# Altium footprint library Sampler_DIOT.PcbLib: 109 footprints (part 6 of 7)
Each footprint in its own frame and in the unit in brackets; x right, y up, seen from the top. Pads: shape width x height; smd on the part's side, far side on the other; paste and mask are expansions set on the pad; w line width, h text height; cw(c..) or ccw(c..) is an arc to the next point about the centre after c.
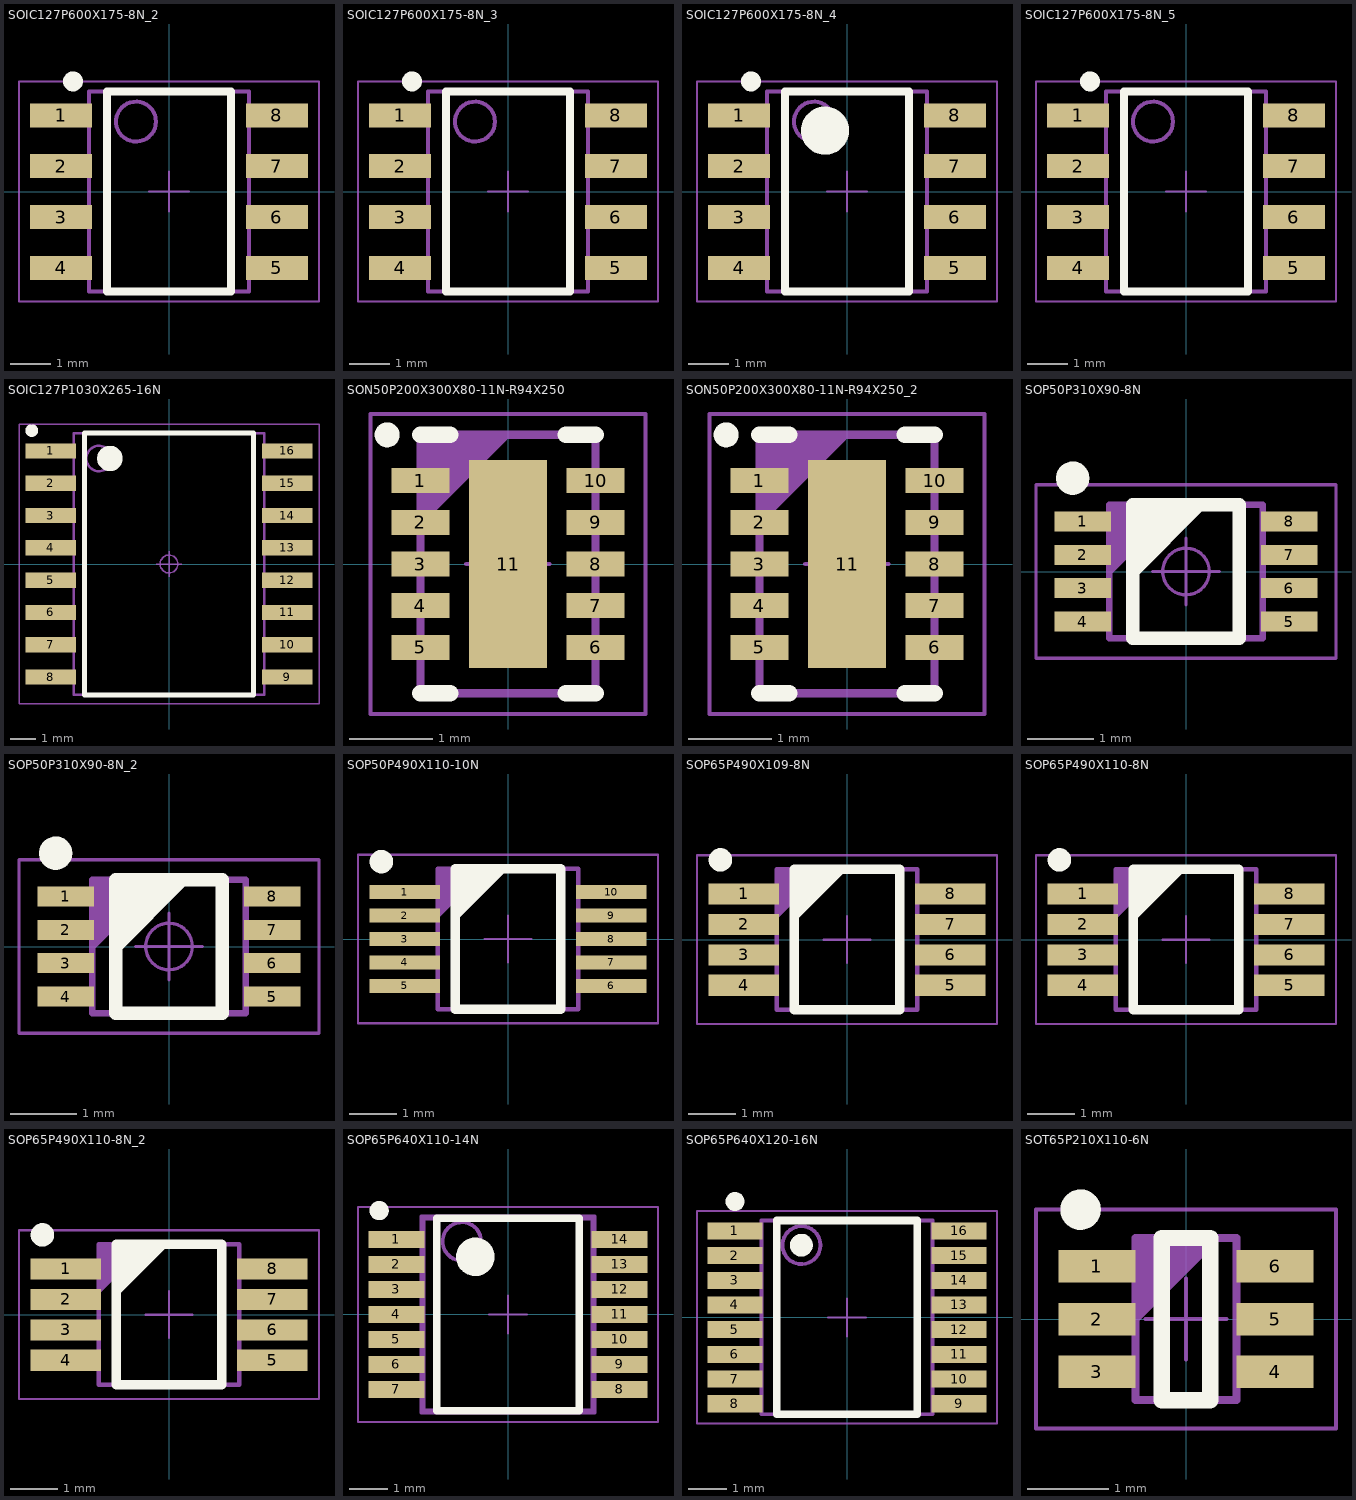
[diagram p5: the footprints below, top view; thin cyan lines are the x and y axes]

## SOIC127P600X175-8N_2 [mm]
pads (8):
  rect 1.55x0.6 smd: 1(-2.7,1.905) 2(-2.7,0.635) 3(-2.7,-0.635) 4(-2.7,-1.905) 5(2.7,-1.905) 6(2.7,-0.635) 7(2.7,0.635) 8(2.7,1.905)
Top Overlay:
  circle w0.25: c-2.4,2.755 r0.125
  lines w0.2: -1.55,-2.5 -1.55,2.5 1.55,2.5 1.55,-2.5 -1.55,-2.5
Top Assembly:
  circle w0.1: c-0.825,1.75 r0.5
  lines w0.1: -2,-2.5 2,-2.5 2,2.5 -2,2.5 -2,-2.5
Top Courtyard:
  lines w0.05: -0.5,0 0.5,0 ; 0,-0.5 0,0.5 ; -3.75,-2.75 3.75,-2.75 3.75,2.75 -3.75,2.75 -3.75,-2.75
3D body "SOIC127P600X175-8N.stp": height 1.75, standoff 0, extent -3.1,-2.5 3.1,2.5

## SOIC127P600X175-8N_3 [mm]
pads (8):
  rect 1.55x0.6 smd: 1(-2.7,1.905) 2(-2.7,0.635) 3(-2.7,-0.635) 4(-2.7,-1.905) 5(2.7,-1.905) 6(2.7,-0.635) 7(2.7,0.635) 8(2.7,1.905)
Top Overlay:
  circle w0.25: c-2.4,2.755 r0.125
  lines w0.2: -1.55,-2.5 1.55,-2.5 1.55,2.5 -1.55,2.5 -1.55,-2.5
Top Assembly:
  circle w0.1: c-0.825,1.75 r0.5
  lines w0.1: -2,-2.5 -2,2.5 2,2.5 2,-2.5 -2,-2.5
Top Courtyard:
  lines w0.05: -0.5,0 0.5,0 ; 0,-0.5 0,0.5 ; -3.75,-2.75 -3.75,2.75 3.75,2.75 3.75,-2.75 -3.75,-2.75
3D body "SOIC127P600X175-8N.stp": height 1.75, standoff 0, extent -3.1,-2.5 3.1,2.5

## SOIC127P600X175-8N_4 [mm]
pads (8):
  rect 1.55x0.6 smd: 1(-2.7,1.905) 2(-2.7,0.635) 3(-2.7,-0.635) 4(-2.7,-1.905) 5(2.7,-1.905) 6(2.7,-0.635) 7(2.7,0.635) 8(2.7,1.905)
Top Overlay:
  circle w0.25: c-2.4,2.755 r0.125
  circle w0.6: c-0.55,1.525 r0.3
  lines w0.2: -1.55,-2.5 1.55,-2.5 1.55,2.5 -1.55,2.5 -1.55,-2.5
Top Assembly:
  circle w0.1: c-0.825,1.75 r0.5
  lines w0.1: -2,-2.5 2,-2.5 2,2.5 -2,2.5 -2,-2.5
Top Courtyard:
  lines w0.05: -0.5,0 0.5,0 ; 0,-0.5 0,0.5 ; -3.75,-2.75 3.75,-2.75 3.75,2.75 -3.75,2.75 -3.75,-2.75
3D body "SOIC127P600X175-8N.stp": height 1.75, standoff 0, extent -3.1,-2.5 3.1,2.5

## SOIC127P600X175-8N_5 [mm]
pads (8):
  rect 1.55x0.6 smd: 1(-2.7,1.905) 2(-2.7,0.635) 3(-2.7,-0.635) 4(-2.7,-1.905) 5(2.7,-1.905) 6(2.7,-0.635) 7(2.7,0.635) 8(2.7,1.905)
Top Overlay:
  circle w0.25: c-2.4,2.755 r0.125
  lines w0.2: -1.55,-2.5 1.55,-2.5 1.55,2.5 -1.55,2.5 -1.55,-2.5
Top Assembly:
  circle w0.1: c-0.825,1.75 r0.5
  lines w0.1: -2,-2.5 -2,2.5 2,2.5 2,-2.5 -2,-2.5
Top Courtyard:
  lines w0.05: -0.5,0 0.5,0 ; 0,-0.5 0,0.5 ; -3.75,-2.75 -3.75,2.75 3.75,2.75 3.75,-2.75 -3.75,-2.75
3D body "SOIC127P600X175-8N.stp": height 1.75, standoff 0, extent -3.1,-2.5 3.1,2.5

## SOIC127P1030X265-16N [mm]
pads (16):
  rect 2x0.6 smd: 1(-4.65,4.445) 2(-4.65,3.175) 3(-4.65,1.905) 4(-4.65,0.635) 5(-4.65,-0.635) 6(-4.65,-1.905) 7(-4.65,-3.175) 8(-4.65,-4.445) 9(4.65,-4.445) 10(4.65,-3.175) 11(4.65,-1.905) 12(4.65,-0.635) 13(4.65,0.635) 14(4.65,1.905) 15(4.65,3.175) 16(4.65,4.445)
Top Overlay:
  circle w0.5: c-2.325,4.15 r0.25
  lines w0.2: -3.325,-5.15 -3.325,5.15 3.325,5.15 3.325,-5.15 -3.325,-5.15
  lines w0.25: -5.455,5.362 ccw(c-5.4,5.25) -5.4,5.125 ccw(c-5.4,5.25) -5.345,5.362
Top Assembly:
  circle w0.1: c-2.75,4.15 r0.5
  lines w0.1: -3.75,-5.15 -3.75,5.15 3.75,5.15 3.75,-5.15 -3.75,-5.15
Top Courtyard:
  circle w0.05: c0,0 r0.35
  lines w0.05: -0.5,0 0.5,0 ; 0,-0.5 0,0.5 ; -5.9,-5.5 -5.9,5.5 5.9,5.5 5.9,-5.5 -5.9,-5.5
3D body "SOIC127P1030X265-16N.stp": height 1.68, standoff 0, extent -5.18,-5.25 5.18,5.25

## SON50P200X300X80-11N-R94X250 [mm]
pads (11):
  rect 0.7x0.3 smd: 1(-1.05,1) 2(-1.05,0.5) 3(-1.05,0) 4(-1.05,-0.5) 5(-1.05,-1) 6(1.05,-1) 7(1.05,-0.5) 8(1.05,0) 9(1.05,0.5) 10(1.05,1)
  rect 0.94x2.5 smd: 11(0,0)
Top Overlay:
  circle w0.2: c-1.45,1.55 r0.05
  lines w0.2: -1.05,-1.55 -0.695,-1.55 ; -1.05,1.55 -0.695,1.55 ; 0.695,-1.55 1.05,-1.55 ; 0.695,1.55 1.05,1.55
Top Paste:
  rectangle: -0.45,-1.25 0.45,1.25
Top Assembly:
  lines w0.1: -1.05,0.525 -0.05,1.525 ; -1.05,0.625 -0.15,1.525 ; -1.05,0.725 -0.25,1.525 ; -1.05,0.825 -0.35,1.525 ; -1.05,0.925 -0.45,1.525 ; -1.05,1.025 -0.55,1.525 ; -1.05,1.125 -0.65,1.525 ; -1.05,1.225 -0.75,1.525 ; -1.05,1.325 -0.85,1.525 ; -1.05,1.425 -0.95,1.525 ; -1.05,-1.55 1.05,-1.55 1.05,1.55 -1.05,1.55 -1.05,-1.55
Top Courtyard:
  lines w0.05: -0.5,0 0.5,0 ; 0,-0.5 0,0.5 ; -1.65,-1.8 1.65,-1.8 1.65,1.8 -1.65,1.8 -1.65,-1.8
3D body "SON50P200X300X80-11N-R94X250.stp": height 0.8, standoff 0, extent -1.05,-1.55 1.05,1.55

## SON50P200X300X80-11N-R94X250_2 [mm]
pads (11):
  rect 0.7x0.3 smd: 1(-1.05,1) 2(-1.05,0.5) 3(-1.05,0) 4(-1.05,-0.5) 5(-1.05,-1) 6(1.05,-1) 7(1.05,-0.5) 8(1.05,0) 9(1.05,0.5) 10(1.05,1)
  rect 0.94x2.5 smd: 11(0,0)
Top Overlay:
  circle w0.2: c-1.45,1.55 r0.05
  lines w0.2: -1.05,-1.55 -0.695,-1.55 ; -1.05,1.55 -0.695,1.55 ; 0.695,-1.55 1.05,-1.55 ; 0.695,1.55 1.05,1.55
Top Paste:
  rectangle: -0.45,-1.25 0.45,1.25
Top Assembly:
  lines w0.1: -1.05,0.525 -0.05,1.525 ; -1.05,0.625 -0.15,1.525 ; -1.05,0.725 -0.25,1.525 ; -1.05,0.825 -0.35,1.525 ; -1.05,0.925 -0.45,1.525 ; -1.05,1.025 -0.55,1.525 ; -1.05,1.125 -0.65,1.525 ; -1.05,1.225 -0.75,1.525 ; -1.05,1.325 -0.85,1.525 ; -1.05,1.425 -0.95,1.525 ; -1.05,-1.55 -1.05,1.55 1.05,1.55 1.05,-1.55 -1.05,-1.55
Top Courtyard:
  lines w0.05: -0.5,0 0.5,0 ; 0,-0.5 0,0.5 ; -1.65,-1.8 -1.65,1.8 1.65,1.8 1.65,-1.8 -1.65,-1.8
3D body "SON50P200X300X80-11N-R94X250.stp": height 0.8, standoff 0, extent -1.05,-1.55 1.05,1.55

## SOP50P310X90-8N [mm]
pads (8):
  rect 0.85x0.3 smd: 1(-1.55,0.75) 2(-1.55,0.25) 3(-1.55,-0.25) 4(-1.55,-0.75) 5(1.55,-0.75) 6(1.55,-0.25) 7(1.55,0.25) 8(1.55,0.75)
Top Overlay:
  circle w0.25: c-1.7,1.4 r0.125
  lines w0.2: -0.8,0 0.2,1 ; -0.8,0.2 0,1 ; -0.8,0.4 -0.2,1 ; -0.8,0.6 -0.4,1 ; -0.8,0.8 -0.6,1 ; -0.8,-1 0.8,-1 0.8,1 -0.8,1 -0.8,-1
Top Assembly:
  lines w0.1: -1.15,0 -0.15,1 ; -1.15,0.1 -0.25,1 ; -1.15,0.2 -0.35,1 ; -1.15,0.3 -0.45,1 ; -1.15,0.4 -0.55,1 ; -1.15,0.5 -0.65,1 ; -1.15,0.6 -0.75,1 ; -1.15,0.7 -0.85,1 ; -1.15,0.8 -0.95,1 ; -1.15,0.9 -1.05,1 ; -1.15,-1 1.15,-1 1.15,1 -1.15,1 -1.15,-1
Top Courtyard:
  circle w0.05: c0,0 r0.35
  lines w0.05: -0.5,0 0.5,0 ; 0,-0.5 0,0.5 ; -2.25,-1.3 2.25,-1.3 2.25,1.3 -2.25,1.3 -2.25,-1.3
3D body "SOP50P310X90-8N.stp": height 0.9, standoff 0, extent -1.616,-1 1.616,1

## SOP50P310X90-8N_2 [mm]
pads (8):
  rect 0.85x0.3 smd: 1(-1.55,0.75) 2(-1.55,0.25) 3(-1.55,-0.25) 4(-1.55,-0.75) 5(1.55,-0.75) 6(1.55,-0.25) 7(1.55,0.25) 8(1.55,0.75)
Top Overlay:
  circle w0.25: c-1.7,1.4 r0.125
  lines w0.2: -0.8,0 0.2,1 ; -0.8,0.2 0,1 ; -0.8,0.4 -0.2,1 ; -0.8,0.6 -0.4,1 ; -0.8,0.8 -0.6,1 ; -0.8,-1 0.8,-1 0.8,1 -0.8,1 -0.8,-1
Top Assembly:
  lines w0.1: -1.15,0 -0.15,1 ; -1.15,0.1 -0.25,1 ; -1.15,0.2 -0.35,1 ; -1.15,0.3 -0.45,1 ; -1.15,0.4 -0.55,1 ; -1.15,0.5 -0.65,1 ; -1.15,0.6 -0.75,1 ; -1.15,0.7 -0.85,1 ; -1.15,0.8 -0.95,1 ; -1.15,0.9 -1.05,1 ; -1.15,-1 1.15,-1 1.15,1 -1.15,1 -1.15,-1
Top Courtyard:
  circle w0.05: c0,0 r0.35
  lines w0.05: -0.5,0 0.5,0 ; 0,-0.5 0,0.5 ; -2.25,-1.3 2.25,-1.3 2.25,1.3 -2.25,1.3 -2.25,-1.3
3D body "SOP50P310X90-8N.stp": height 0.9, standoff 0, extent -1.616,-1 1.616,1

## SOP50P490X110-10N [mm]
pads (10):
  rect 1.5x0.3 smd: 1(-2.2,1) 2(-2.2,0.5) 3(-2.2,0) 4(-2.2,-0.5) 5(-2.2,-1) 6(2.2,-1) 7(2.2,-0.5) 8(2.2,0) 9(2.2,0.5) 10(2.2,1)
Top Overlay:
  circle w0.25: c-2.7,1.65 r0.125
  lines w0.2: -1.125,0.5 -0.125,1.5 ; -1.125,0.7 -0.325,1.5 ; -1.125,0.9 -0.525,1.5 ; -1.125,1.1 -0.725,1.5 ; -1.125,1.3 -0.925,1.5 ; -1.125,-1.5 -1.125,1.5 1.125,1.5 1.125,-1.5 -1.125,-1.5
Top Assembly:
  lines w0.1: -1.5,0.5 -0.5,1.5 ; -1.5,0.6 -0.6,1.5 ; -1.5,0.7 -0.7,1.5 ; -1.5,0.8 -0.8,1.5 ; -1.5,0.9 -0.9,1.5 ; -1.5,1 -1,1.5 ; -1.5,1.1 -1.1,1.5 ; -1.5,1.2 -1.2,1.5 ; -1.5,1.3 -1.3,1.5 ; -1.5,1.4 -1.4,1.5 ; -1.5,-1.5 1.5,-1.5 1.5,1.5 -1.5,1.5 -1.5,-1.5
Top Courtyard:
  lines w0.05: -0.5,0 0.5,0 ; 0,-0.5 0,0.5 ; -3.2,-1.8 -3.2,1.8 3.2,1.8 3.2,-1.8 -3.2,-1.8
3D body "SOP50P490X110-10N.stp": height 1.1, standoff 0, extent -2.45,-1.55 2.45,1.55

## SOP65P490X109-8N [mm]
pads (8):
  rect 1.5x0.45 smd: 1(-2.2,0.975) 2(-2.2,0.325) 3(-2.2,-0.325) 4(-2.2,-0.975) 5(2.2,-0.975) 6(2.2,-0.325) 7(2.2,0.325) 8(2.2,0.975)
Top Overlay:
  circle w0.25: c-2.7,1.7 r0.125
  lines w0.2: -1.125,0.5 -0.125,1.5 ; -1.125,0.7 -0.325,1.5 ; -1.125,0.9 -0.525,1.5 ; -1.125,1.1 -0.725,1.5 ; -1.125,1.3 -0.925,1.5 ; -1.125,-1.5 1.125,-1.5 1.125,1.5 -1.125,1.5 -1.125,-1.5
Top Assembly:
  lines w0.1: -1.5,0.5 -0.5,1.5 ; -1.5,0.6 -0.6,1.5 ; -1.5,0.7 -0.7,1.5 ; -1.5,0.8 -0.8,1.5 ; -1.5,0.9 -0.9,1.5 ; -1.5,1 -1,1.5 ; -1.5,1.1 -1.1,1.5 ; -1.5,1.2 -1.2,1.5 ; -1.5,1.3 -1.3,1.5 ; -1.5,1.4 -1.4,1.5 ; -1.5,-1.5 -1.5,1.5 1.5,1.5 1.5,-1.5 -1.5,-1.5
Top Courtyard:
  lines w0.05: -0.5,0 0.5,0 ; 0,-0.5 0,0.5 ; -3.2,-1.8 3.2,-1.8 3.2,1.8 -3.2,1.8 -3.2,-1.8
3D body "SOP65P490X109-8N.stp": height 1.09, standoff 0, extent -2.45,-1.55 2.45,1.55

## SOP65P490X110-8N [mm]
pads (8):
  rect 1.5x0.45 smd: 1(-2.2,0.975) 2(-2.2,0.325) 3(-2.2,-0.325) 4(-2.2,-0.975) 5(2.2,-0.975) 6(2.2,-0.325) 7(2.2,0.325) 8(2.2,0.975)
Top Overlay:
  circle w0.25: c-2.7,1.7 r0.125
  lines w0.2: -1.125,0.5 -0.125,1.5 ; -1.125,0.7 -0.325,1.5 ; -1.125,0.9 -0.525,1.5 ; -1.125,1.1 -0.725,1.5 ; -1.125,1.3 -0.925,1.5 ; -1.125,-1.5 -1.125,1.5 1.125,1.5 1.125,-1.5 -1.125,-1.5
Top Assembly:
  lines w0.1: -1.5,0.5 -0.5,1.5 ; -1.5,0.6 -0.6,1.5 ; -1.5,0.7 -0.7,1.5 ; -1.5,0.8 -0.8,1.5 ; -1.5,0.9 -0.9,1.5 ; -1.5,1 -1,1.5 ; -1.5,1.1 -1.1,1.5 ; -1.5,1.2 -1.2,1.5 ; -1.5,1.3 -1.3,1.5 ; -1.5,1.4 -1.4,1.5 ; -1.5,-1.5 1.5,-1.5 1.5,1.5 -1.5,1.5 -1.5,-1.5
Top Courtyard:
  lines w0.05: -0.5,0 0.5,0 ; 0,-0.5 0,0.5 ; -3.2,-1.8 -3.2,1.8 3.2,1.8 3.2,-1.8 -3.2,-1.8
3D body "SOP65P490X110-8N.stp": height 1.1, standoff 0, extent -2.45,-1.55 2.45,1.55

## SOP65P490X110-8N_2 [mm]
pads (8):
  rect 1.5x0.45 smd: 1(-2.2,0.975) 2(-2.2,0.325) 3(-2.2,-0.325) 4(-2.2,-0.975) 5(2.2,-0.975) 6(2.2,-0.325) 7(2.2,0.325) 8(2.2,0.975)
Top Overlay:
  circle w0.25: c-2.7,1.7 r0.125
  lines w0.2: -1.125,0.5 -0.125,1.5 ; -1.125,0.7 -0.325,1.5 ; -1.125,0.9 -0.525,1.5 ; -1.125,1.1 -0.725,1.5 ; -1.125,1.3 -0.925,1.5 ; -1.125,-1.5 -1.125,1.5 1.125,1.5 1.125,-1.5 -1.125,-1.5
Top Assembly:
  lines w0.1: -1.5,0.5 -0.5,1.5 ; -1.5,0.6 -0.6,1.5 ; -1.5,0.7 -0.7,1.5 ; -1.5,0.8 -0.8,1.5 ; -1.5,0.9 -0.9,1.5 ; -1.5,1 -1,1.5 ; -1.5,1.1 -1.1,1.5 ; -1.5,1.2 -1.2,1.5 ; -1.5,1.3 -1.3,1.5 ; -1.5,1.4 -1.4,1.5 ; -1.5,-1.5 1.5,-1.5 1.5,1.5 -1.5,1.5 -1.5,-1.5
Top Courtyard:
  lines w0.05: -0.5,0 0.5,0 ; 0,-0.5 0,0.5 ; -3.2,-1.8 -3.2,1.8 3.2,1.8 3.2,-1.8 -3.2,-1.8
3D body "SOP65P490X110-8N.stp": height 1.1, standoff 0, extent -2.45,-1.55 2.45,1.55

## SOP65P640X110-14N [mm]
pads (14):
  rect 1.45x0.45 smd: 1(-2.9,1.95) 2(-2.9,1.3) 3(-2.9,0.65) 4(-2.9,0) 5(-2.9,-0.65) 6(-2.9,-1.3) 7(-2.9,-1.95) 8(2.9,-1.95) 9(2.9,-1.3) 10(2.9,-0.65) 11(2.9,0) 12(2.9,0.65) 13(2.9,1.3) 14(2.9,1.95)
Top Overlay:
  circle w0.5: c-0.85,1.5 r0.25
  circle w0.25: c-3.35,2.7 r0.125
  lines w0.2: -1.85,-2.5 1.85,-2.5 1.85,2.5 -1.85,2.5 -1.85,-2.5
Top Assembly:
  circle w0.1: c-1.2,1.9 r0.5
  lines w0.1: -2.25,-2.55 -2.25,2.55 2.25,2.55 2.25,-2.55 -2.25,-2.55 ; -2.2,-2.5 2.2,-2.5 2.2,2.5 -2.2,2.5 -2.2,-2.5
Top Courtyard:
  lines w0.05: -0.5,0 0.5,0 ; 0,-0.5 0,0.5 ; -3.9,-2.8 3.9,-2.8 3.9,2.8 -3.9,2.8 -3.9,-2.8
3D body "SOP65P640X110-14N.stp": height 1.1, standoff 0, extent -3.121,-2.55 3.121,2.55

## SOP65P640X120-16N [mm]
pads (16):
  rect 1.45x0.45 smd: 1(-2.95,2.275) 2(-2.95,1.625) 3(-2.95,0.975) 4(-2.95,0.325) 5(-2.95,-0.325) 6(-2.95,-0.975) 7(-2.95,-1.625) 8(-2.95,-2.275) 9(2.95,-2.275) 10(2.95,-1.625) 11(2.95,-0.975) 12(2.95,-0.325) 13(2.95,0.325) 14(2.95,0.975) 15(2.95,1.625) 16(2.95,2.275)
Top Overlay:
  circle w0.25: c-2.95,3.05 r0.125
  circle w0.3: c-1.2,1.9 r0.15
  lines w0.2: -1.85,-2.55 1.85,-2.55 1.85,2.55 -1.85,2.55 -1.85,-2.55
Top Assembly:
  circle w0.1: c-1.2,1.9 r0.5
  lines w0.1: -2.25,-2.55 2.25,-2.55 2.25,2.55 -2.25,2.55 -2.25,-2.55
Top Courtyard:
  lines w0.05: -0.5,0 0.5,0 ; 0,-0.5 0,0.5 ; -3.95,-2.8 3.95,-2.8 3.95,2.8 -3.95,2.8 -3.95,-2.8
3D body "SOP65P640X120-16N.stp": height 1.2, standoff 0, extent -3.121,-2.55 3.121,2.55

## SOT65P210X110-6N [mm]
pads (6):
  rect 0.95x0.4 smd: 1(-1.1,0.65) 2(-1.1,0) 3(-1.1,-0.65) 4(1.1,-0.65) 5(1.1,0) 6(1.1,0.65)
Top Overlay:
  circle w0.25: c-1.3,1.35 r0.125
  lines w0.2: -0.3,-1 -0.3,1 0.3,1 0.3,-1 -0.3,-1
Top Assembly:
  lines w0.1: -0.625,0 0.375,1 ; -0.625,0.1 0.275,1 ; -0.625,0.2 0.175,1 ; -0.625,0.3 0.075,1 ; -0.625,0.4 -0.025,1 ; -0.625,0.5 -0.125,1 ; -0.625,0.6 -0.225,1 ; -0.625,0.7 -0.325,1 ; -0.625,0.8 -0.425,1 ; -0.625,0.9 -0.525,1 ; -0.625,-1 -0.625,1 0.625,1 0.625,-1 -0.625,-1
Top Courtyard:
  lines w0.05: -0.5,0 0.5,0 ; 0,-0.5 0,0.5 ; -1.85,-1.35 -1.85,1.35 1.85,1.35 1.85,-1.35 -1.85,-1.35
3D body "SOT65P210X110-6N.stp": height 1.1, standoff 0, extent -1.2,-1.1 1.2,1.1